# Altium footprint library Components - 16.11.21 - 15.06.PcbLib: 3 footprints
Each footprint in its own frame and in the unit in brackets; x right, y up, seen from the top. Pads: shape width x height; smd on the part's side, far side on the other; paste and mask are expansions set on the pad; w line width, h text height; cw(c..) or ccw(c..) is an arc to the next point about the centre after c.
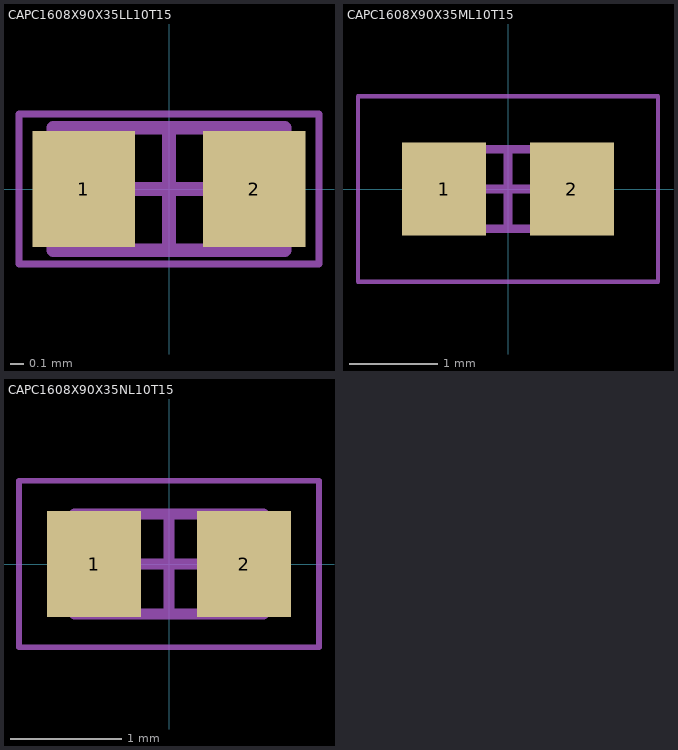
[diagram p0: the footprints below, top view; thin cyan lines are the x and y axes]

## CAPC1608X90X35LL10T15 [mm]
height 0.9
pads (2):
  rect 0.75x0.85 smd: 1(-0.625,0) 2(0.625,0)
Mechanical 13:
  lines w0.1: -0.85,-0.45 0.85,-0.45 0.85,0.45 -0.85,0.45 -0.85,-0.45
Mechanical 15:
  lines w0.05: -1.1,-0.55 1.1,-0.55 1.1,0.55 -1.1,0.55 -1.1,-0.55
  lines w0.1: -0.45,0 0.45,0 ; 0,-0.45 0,0.45
3D body: height 0.9, standoff 0, extent 0.5,-0.45 0.85,0.45
3D body: height 0.9, standoff 0, extent -0.85,-0.45 -0.5,0.45
3D body: height 0.9, standoff 0, extent -0.5,-0.45 0.5,0.45

## CAPC1608X90X35ML10T15 [mm] "Chip Capacitor, 2-Leads, Body 1.7x0.9mm, IPC Low Density"
height 0.9
pads (2):
  rect 0.95x1.05 smd: 1(-0.725,0) 2(0.725,0)
Mechanical 13:
  lines w0.1: -0.85,-0.45 0.85,-0.45 0.85,0.45 -0.85,0.45 -0.85,-0.45
Mechanical 15:
  lines w0.05: -1.7,-1.05 1.7,-1.05 1.7,1.05 -1.7,1.05 -1.7,-1.05
  lines w0.1: -0.45,0 0.45,0 ; 0,-0.45 0,0.45
3D body "CAPC1608X09M.step": height 0.9, standoff 0, extent -0.85,-0.45 0.85,0.45

## CAPC1608X90X35NL10T15 [mm] "Chip Capacitor, 2-Leads, Body 1.7x0.9mm, IPC Medium Density"
height 0.9
pads (2):
  rect 0.85x0.95 smd: 1(-0.675,0) 2(0.675,0)
Mechanical 13:
  lines w0.1: -0.85,-0.45 -0.85,0.45 0.85,0.45 0.85,-0.45 -0.85,-0.45
Mechanical 15:
  lines w0.05: -1.35,-0.75 -1.35,0.75 1.35,0.75 1.35,-0.75 -1.35,-0.75
  lines w0.1: -0.45,0 0.45,0 ; 0,-0.45 0,0.45
3D body "CAPC1608X09N.step": height 0.9, standoff 0, extent -0.85,-0.45 0.85,0.45